# Altium footprint library Cap0603.PcbLib: 3 footprints
Each footprint in its own frame and in the unit in brackets; x right, y up, seen from the top. Pads: shape width x height; smd on the part's side, far side on the other; paste and mask are expansions set on the pad; w line width, h text height; cw(c..) or ccw(c..) is an arc to the next point about the centre after c.
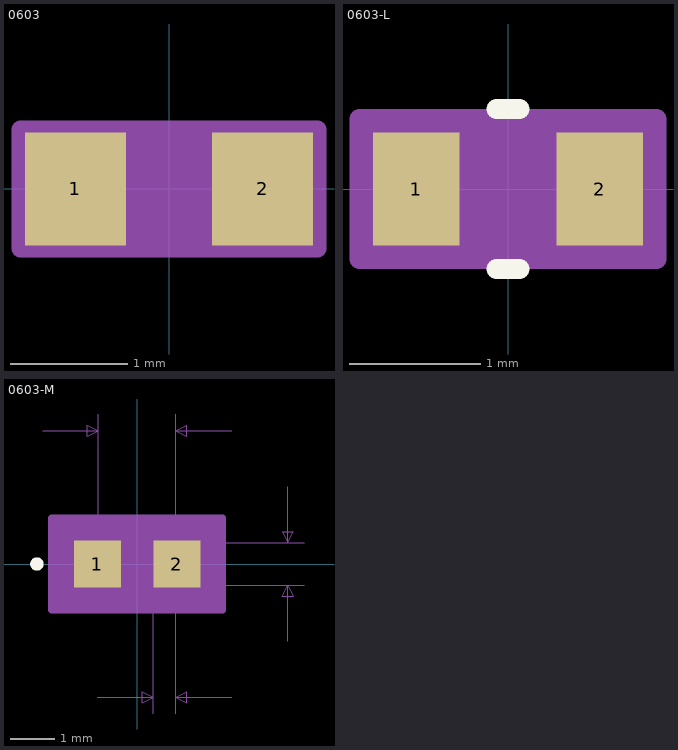
[diagram p0: the footprints below, top view; thin cyan lines are the x and y axes]

## 0603 [mil]
pads (2):
  rect 34x38 smd paste+0 mask+0: 1(-31.5,0) 2(31.5,0)
Mechanical 5:
  region: 50,-20 -50,-20 -50,20 50,20
Mechanical 13:
  circle w0: c-26.5,0 r3
  lines w1: -34.5,-19 -34.5,19 ; -34.5,-19 -14.5,-19 -14.5,19 -34.5,19 ; -34.5,-19 34.5,-19 ; -34.5,-19 -34.5,19 ; -34.5,19 34.5,19 ; 34.5,-19 14.5,-19 14.5,19 34.5,19 ; 34.5,-19 34.5,19 ; 34.5,-19 34.5,19
Mechanical 15:
  region: 50,-20 -50,-20 -50,20 50,20
  lines w6: -50,-20 -50,20 50,20 50,-20 -50,-20
3D body "0603.step": height 35, standoff 0, extent -34.49,-19.01 34.49,19.01
3D body: height 10, standoff 0, extent 0,0 10,10

## 0603-L [mil]
pads (2):
  rect 26x34 smd paste+0 mask+0: 1(-27.5,0) 2(27.5,0)
Top Overlay:
  lines w6: -3.43,-24 3.43,-24 ; -3.43,24 3.43,24
Mechanical 5:
  region: 45,-20 -45,-20 -45,20 45,20
Mechanical 13:
  circle w0: c-22.5,0 r3
  lines w1: -34.5,-19 -34.5,19 ; -34.5,-19 34.5,-19 ; -34.5,-19 -14.5,-19 -14.5,19 -34.5,19 ; -34.5,-19 -34.5,19 ; -34.5,19 34.5,19 ; 34.5,-19 34.5,19 ; 34.5,-19 34.5,19 ; 34.5,-19 14.5,-19 14.5,19 34.5,19
Mechanical 15:
  region: 44.5,-21 -44.5,-21 -44.5,21 44.5,21
  lines w6: -44.5,-21 44.5,-21 44.5,21 -44.5,21 -44.5,-21
3D body: height 10, standoff 0, extent 0,0 10,10
3D body "0603.step": height 35, standoff 0, extent -34.48,-19.01 34.5,19.02

## 0603-M [mil]
pads (2):
  rect 42x42 smd paste+0 mask+0: 1(-35.5,0) 2(35.5,0)
Top Overlay:
  circle w6: c-89.5,0 r3
Mechanical 5:
  region: 71.5,-36 -71.5,-36 -71.5,36 71.5,36
Mechanical 7:
  lines w1: -84.5,119 -34.5,119 ; -35.5,-119 14.5,-119 ; -34.5,0 -34.5,134 ; 0,-19 149.5,-19 ; 0,19 149.5,19 ; 14.5,-134 14.5,0 ; 34.5,-134 34.5,0 34.5,134 ; 84.5,-119 34.5,-119 ; 84.5,119 34.5,119 ; 134.5,-69 134.5,-19 ; 134.5,69 134.5,19 ; -34.5,119 -44.5,124 -44.5,114 -34.5,119 ; 14.5,-119 4.5,-114 4.5,-124 14.5,-119 ; 34.5,-119 44.5,-114 44.5,-124 34.5,-119 ; 34.5,119 44.5,124 44.5,114 34.5,119 ; 134.5,-19 129.5,-29 139.5,-29 134.5,-19 ; 134.5,19 129.5,29 139.5,29 134.5,19
  text "Default Padstyle: RX42Y42D0T" at -350,-291 h50
  text "Alternate 1 Padstyle: OX60Y90D30P" at -412.5,-391 h50
  text "Alternate 2 Padstyle: OX90Y60D30P" at -412.5,-491 h50
  text "0.038in/0.965mm" at 154.5,-12.5 h25
  text "0.069in/1.753mm" at -93.75,139 h25
  text "0.02in/0.508mm" at -63,-164 h25
Mechanical 13:
  circle w0: c-30.5,0 r3
  lines w1: -34.5,-19 -34.5,19 ; -34.5,-19 -14.5,-19 -14.5,19 -34.5,19 ; -34.5,-19 34.5,-19 ; -34.5,-19 -34.5,19 ; -34.5,19 34.5,19 ; 34.5,-19 14.5,-19 14.5,19 34.5,19 ; 34.5,-19 34.5,19 ; 34.5,-19 34.5,19
Mechanical 15:
  region: 76.5,-41 -76.5,-41 -76.5,41 76.5,41
  lines w6: -76.5,-41 -76.5,41 76.5,41 76.5,-41 -76.5,-41
3D body: height 10, standoff 0, extent 0,0 10,10